# Altium schematic symbol library 2021-05-10_15-31-16.SchLib: 2 symbols
Pins are listed as number, name and electrical type; pins without a type are passive.

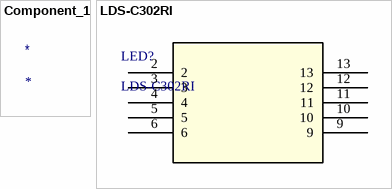
[diagram p0: symbols Component_1 to LDS-C302RI]

## Component_1
designator *

## LDS-C302RI
designator LED?
No Description Available; Vendor: Lumex; Built_By: EMA_Anthony; SourceLibrary: Lumex_2020-01-23; Type: DEV; Datasheet: https://www.lumex.com/spec/LDS-C302RI.pdf; Copyright: Copyright (C) 2018 Accelerated Designs. All rights reserved; Manufacturer_Part_Number: LDS-C302RI; RefDes: RefDes
footprint LDS-C302RI_10P18X19P10_LUM
pins: 2, 3, 4, 5, 6, 9, 10, 11, 12, 13